# EAGLE library part FT231XQ (library Stanford Metro Mini)
FT231XQ - USB to Full Handshake UART IC Notes: USB 2.0 Compatible Vcc: 3.3 V and 5 V compatible Operating Temperature Range: -40°C to +85°C
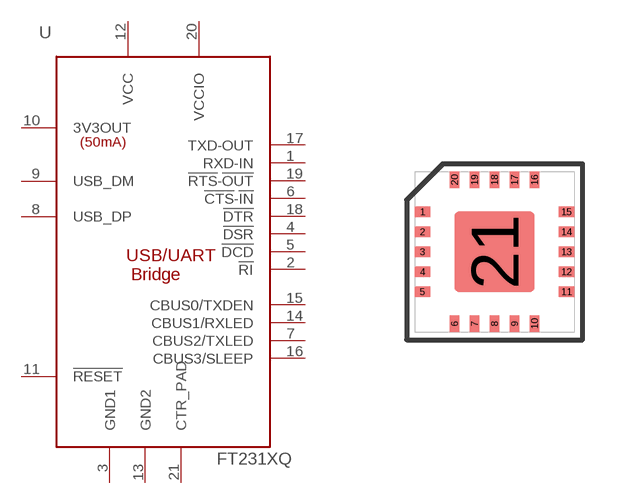
[diagram p3: symbol with the pads of QFN20; footprint QFN20]

Designator prefix U

## FT231XQ  [QFN20]
1  RXD-IN
2  !RI!
3  GND1  pwr
4  !DSR!
5  !DCD!
6  !CTS!-!IN!
7  CBUS2/TXLED
8  USB_DP
9  USB_DM
10  3V3OUT  pwr
11  !RESET!
12  VCC  pwr
13  GND2  pwr
14  CBUS1/RXLED
15  CBUS0/TXDEN  nc
16  CBUS3/SLEEP
17  TXD-OUT
18  !DTR!
19  !RTS!-!OUT!
20  VCCIO  pwr
21  CTR_PAD  pwr

## Footprint QFN20 (pad centres in mm)
QFN-20 w/ Exposed Pad (4 mm x 4 mm)
smd 0.4 x 0.25: 1 -1.8,1; 2 -1.8,0.5; 3 -1.8,0; 4 -1.8,-0.5; 5 -1.8,-1; 11 1.8,-1; 12 1.8,-0.5; 13 1.8,0; 14 1.8,0.5; 15 1.8,1
smd 0.25 x 0.4: 6 -1,-1.8; 7 -0.5,-1.8; 8 0,-1.8; 9 0.5,-1.8; 10 1,-1.8; 16 1,1.8; 17 0.5,1.8; 18 0,1.8; 19 -0.5,1.8; 20 -1,1.8
smd 2 x 2: 21 0,0